# Altium schematic symbol library DP83848x.SchLib: 1 symbol
Pins are listed as number, name and electrical type; pins without a type are passive.

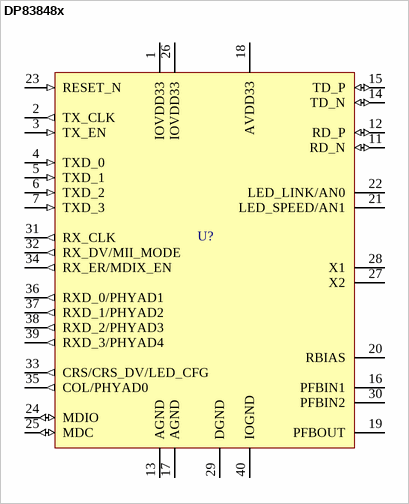
[diagram p0: symbol DP83848x]

## DP83848x
designator U?  (value not drawn)
pins: 1 IOVDD33 (power), 2 TX_CLK (out), 3 TX_EN (in), 4 TXD_0 (in), 5 TXD_1 (in), 6 TXD_2 (in), 7 TXD_3 (in), 11 RD_N (io), 12 RD_P (io), 13 AGND (power), 14 TD_N (io), 15 TD_P (io), 16 PFBIN1, 17 AGND (power), 18 AVDD33 (power), 19 PFBOUT, 20 RBIAS, 21 LED_SPEED/AN1, 22 LED_LINK/AN0, 23 RESET_N (in), 24 MDIO (io), 25 MDC (io), 26 IOVDD33 (power), 27 X2, 28 X1, 29 DGND (power), 30 PFBIN2, 31 RX_CLK (out), 32 RX_DV/MII_MODE (out), 33 CRS/CRS_DV/LED_CFG (out), 34 RX_ER/MDIX_EN (out), 35 COL/PHYAD0 (out), 36 RXD_0/PHYAD1 (out), 37 RXD_1/PHYAD2 (out), 38 RXD_2/PHYAD3 (out), 39 RXD_3/PHYAD4 (out), 40 IOGND (power)